# Altium schematic symbol library ESQ-132-14-G-D.SchLib: 1 symbol
Pins are listed as number, name and electrical type; pins without a type are passive.

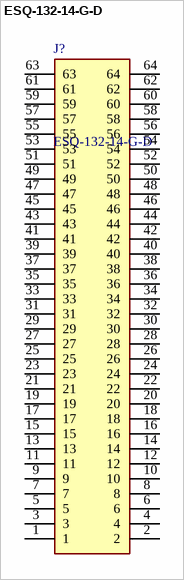
[diagram p0: symbol ESQ-132-14-G-D]

## ESQ-132-14-G-D
designator J?
.100" PC/104 Elevated Socket Strip,  positions per row,  row; Manufacturer_Name: SAMTEC; Manufacturer_Part_Number: ESQ-132-14-G-D; Mouser Part Number: 200-ESQ13214GD; Mouser Price/Stock: https://www.mouser.co.uk/ProductDetail/Samtec/ESQ-132-14-G-D?qs=iT52DjcXuduhJ1nPk6z5Vg%3D%3D; Arrow Part Number: ESQ-132-14-G-D; Arrow Price/Stock: https://www.arrow.com/en/products/esq-132-14-g-d/samtec?region=nac; Datasheet Link: http://suddendocs.samtec.com/prints/esq-1xx-xx-x-x-xxx-xx-x-xx-mkt.pdf
footprint ESQ-132-Y-X-D
pins: 1, 2, 3, 4, 5, 6, 7, 8, 9, 10, 11, 12, 13, 14, 15, 16, 17, 18, 19, 20, 21, 22, 23, 24, 25, 26, 27, 28, 29, 30, 31, 32, 33, 34, 35, 36, 37, 38, 39, 40, 41, 42, 43, 44, 45, 46, 47, 48, 49, 50, 51, 52, 53, 54, 55, 56, 57, 58, 59, 60, 61, 62, 63, 64